# Altium schematic symbol library DPS368XTSA1 .SchLib: 1 symbol
Pins are listed as number, name and electrical type; pins without a type are passive.

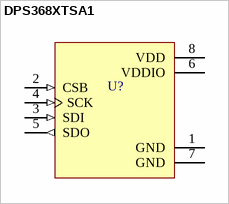
[diagram p0: symbol DPS368XTSA1]

## DPS368XTSA1
designator U?, comment OK  (value not drawn)
Digital XENSIV barometric pressure sensor
pins: 1 GND (power), 2 CSB (in), 3 SDI (in), 4 SCK (in), 5 SDO (out), 6 VDDIO (power), 7 GND (power), 8 VDD (power)